# Altium integrated library CR0603-JW-681ELF.IntLib: 1 symbol
Pins are listed as number, name and electrical type; pins without a type are passive.

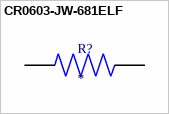
[diagram p0: symbol CR0603-JW-681ELF]

## CR0603-JW-681ELF
designator R?
Res Thick Film 0603 680 Ohm 5% 1/10W Â±200ppm/Â°C Molded SMD SMD Paper Tape on Plastic Reel; MP: CR0603-JW-681ELF; Package: None; Price: None; Value: *; Availability: Unavailable
footprint RESC1608X55N
pins: 1, 2